# Altium schematic symbol library DC-DC switching regulators.SCHLIB: 9 symbols
Pins are listed as number, name and electrical type; pins without a type are passive.

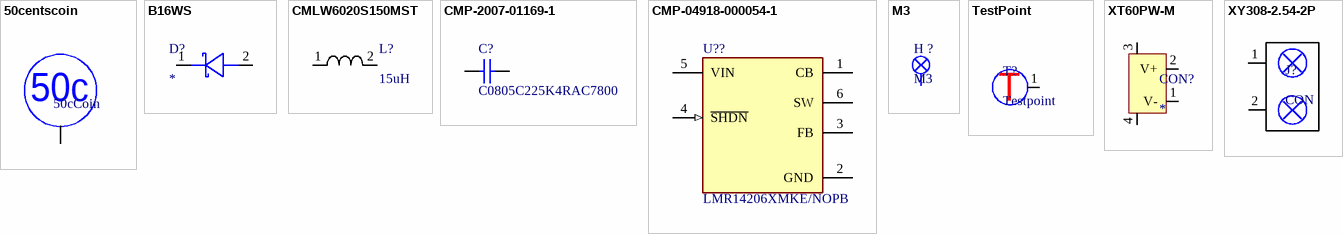
[diagram p0: symbols 50centscoin to XY308-2.54-2P]

## 50centscoin
designator ?, comment 50cCoin
50cents
footprint 50c
pins: 1
text: 50c

## B16WS
designator D?
60V Single 700mV@1A 1A SOD-323 Schottky Barrier Diodes (SBD) ROHS; JLCPCB Part #: C7420327; ComponentLink1Description: JCLPCB; ComponentLink1URL: https://jlcpcb.com/partdetail/Hongjiacheng-B16WS/C7420327; ComponentLink2Description: Datasheet; ComponentLink2URL: https://wmsc.lcsc.com/wmsc/upload/file/pdf/v2/lcsc/2308281514_hongjiacheng-B16WS_C7420327.pdf
footprint SODFL2512X80N
pins: 1 K, 2 A

## CMLW6020S150MST
designator L?, comment 15uH
JLCPCB Part #: C431352; ComponentLink1Description: JLCPCB Link; ComponentLink1URL: *
footprint CMLW6020S150MST
pins: 1, 2

## CMP-2007-01169-1
designator C?, comment C0805C225K4RAC7800
Manufacturer: Kemet; Part Number: C0805C225K4RAC7800
footprint CAPC2013X145X50ML20T25 (Chip Capacitor, 2-Leads, Body 2.00x1.25mm, IPC Low Density)
footprint CAPC2013X145X50NL20T25 (Chip Capacitor, 2-Leads, Body 2.00x1.25mm, IPC Medium Density)
footprint CAPC2013X145X50LL20T25 (Chip Capacitor, 2-Leads, Body 2.00x1.25mm, IPC High Density)
pins: 1, 2
1 alternate drawing of the same symbol

## CMP-04918-000054-1
designator U??, comment LMR14206XMKE/NOPB
IC REG BUCK ADJ 600MA TSOT23-6; Manufacturer: Texas Instruments; Nominal Supply Current: 1.3-1.35mA; Output Type: AdjustableProgrammable; Max Supply Voltage: 42V; Number Of Outputs: 1; Switching Frequency: 1.25MHz; Standoff Height: 0mm; Min Supply Voltage: 4.5V; Max Junction Temp: +125°C; Max Duty Cycle: 87%; Output Current: 0.6A; Output Voltage: 0.765-34V; Device Class L1: Integrated Circuits (ICs); Automotive: No; Manufacturer Part Number: LMR14206XMKE/NOPB; Switching Topology: Buck; Digikey Description: IC REG BUCK ADJ 600MA TSOT23-6; Temperature Range Low: -40°C; Device Class L2: Power Management ICs; Package: DDC0006A; Temperature: -40°C to +125°C; Lead Free: Yes; Temperature Range High: +125°C; Height: 1.1mm; ComponentLink2URL: http://www.ti.com/lit/ds/symlink/lmr14206.pdf; RoHS: TRUE; Mouser Description: Voltage Regulators - Switching Regulators SIMPLE SWITCHER 42 Vin,0.6A SD Vltg Reg; Category: IC; Ipc Land Pattern Name: SOT95P280X110-6; Device Class L3: Voltage Regulators - Switching; ComponentLink2Description: Datasheet; Octopart: https://octopart.com/lmr14206xmke%2Fnopb-texas+instruments-24815773
footprint FP-DDC0006A-MFG
footprint FP-DDC0006A-IPC_C
footprint FP-DDC0006A-IPC_B
footprint FP-DDC0006A-IPC_A
pins: 1 CB, 2 GND (power), 3 FB, 4 ~{SHDN} (in), 5 VIN (power), 6 SW

## M3
designator H ?
M3 drill hole
footprint M3 (M3 drill hole)
pins: 1

## TestPoint
designator T?, comment Testpoint  (no BOM)
footprint Testpoint
pins: 1 In
text: T

## XT60PW-M
designator CON?
Power Connectors ROHS; MFR.Part #: XT60PW-M; JLCPCB Part #: C98732; ComponentLink1Description: JLCPCB; ComponentLink1URL: https://jlcpcb.com/partdetail/Changzhou_AmassElec-XT60PWM/C98732; ComponentLink2Description: Datasheet; ComponentLink2URL: https://wmsc.lcsc.com/wmsc/upload/file/pdf/v2/lcsc/1810251313_Changzhou-Amass-Elec-XT60PW-M_C98732.pdf
footprint XT60PW-M
pins: 1 V-, 2 V+, 3, 4

## XY308-2.54-2P
designator J?, comment CON
1x2P 6A 150V Green 18~26 Straight 2.54mm 1 1 2 Plugin,P=2.54mm Screw terminal ROHS; MFR.Part #: XY308-2.54-2P; JLCPCB Part #: C557685; ComponentLink1Description: Datasheet; ComponentLink1URL: https://wmsc.lcsc.com/wmsc/upload/file/pdf/v2/lcsc/2304140030_Ningbo-Xinlaiya-Elec--XY308-2-54-2P_C557685.pdf; ComponentLink2Description: JLCPCB; ComponentLink2URL: https://jlcpcb.com/partdetail/Ningbo_Xinlaiya_elec-XY308_2_542P/C557685
footprint XY308-2.54-2P (1x2P 6A 150V Green 18~26 Straight 2.54mm 1 1 2 Plugin,P=2.54mm Screw terminal ROHS)
pins: 1, 2